# Altium footprint library LV_module.PcbLib: 18 footprints (part 1 of 2)
Each footprint in its own frame and in the unit in brackets; x right, y up, seen from the top. Pads: shape width x height; smd on the part's side, far side on the other; paste and mask are expansions set on the pad; w line width, h text height; cw(c..) or ccw(c..) is an arc to the next point about the centre after c.
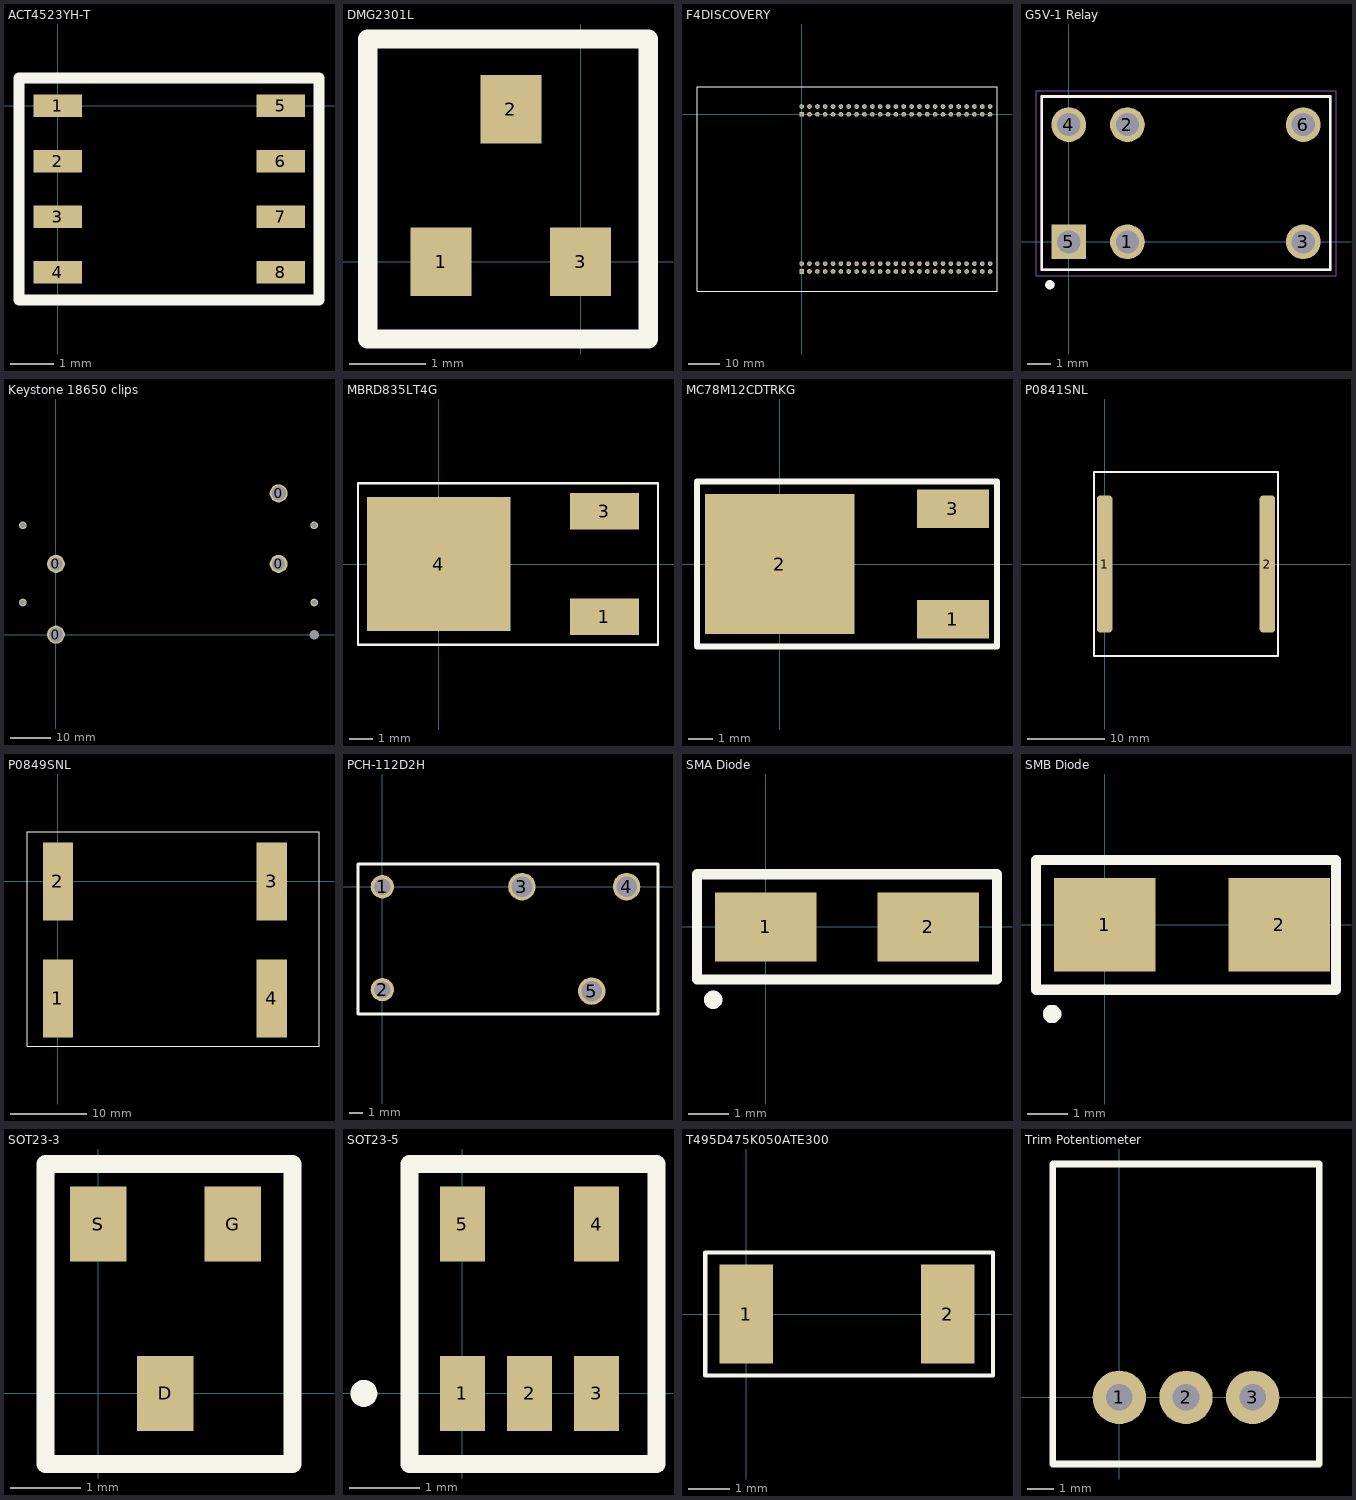
[diagram p0: the footprints below, top view; thin cyan lines are the x and y axes]

## ACT4523YH-T [mil] "12V Switching Step-Down Voltage Regulator, 3A"
pads (8):
  rect 43.5x20 smd: 1(0,0) 2(0,-50) 3(0,-100) 4(0,-150) 5(200.5,0) 6(200.5,-50) 7(200.5,-100) 8(200.5,-150)
Top Overlay:
  lines w10: -35,-175 235,-175 235,25 -35,25 -35,-175
3D body: height 10, standoff 0, extent -65,110 -65,110

## DMG2301L [mm] "P-Ch MOSFET 3A 20V"
pads (3):
  rect 0.8x0.9 smd: 1(-1.83,0) 2(-0.915,2) 3(0,0)
Top Overlay:
  lines w0.254: -2.794,-1.016 0.889,-1.016 0.889,2.921 -2.794,2.921 -2.794,-1.016

## F4DISCOVERY [mm]
pads (100):
  rect 1.5x1.5 hole 0.9: 1(0,-50.8) 51(0,0)
  round 1.5 hole 0.9: 2(0,-48.26) 3(2.54,-50.8) 4(2.54,-48.26) 5(5.08,-50.8) 6(5.08,-48.26) 7(7.62,-50.8) 8(7.62,-48.26) 9(10.16,-50.8) 10(10.16,-48.26) 11(12.7,-50.8) 12(12.7,-48.26) 13(15.24,-50.8) 14(15.24,-48.26) 15(17.78,-50.8) 16(17.78,-48.26) 17(20.32,-50.8) 18(20.32,-48.26) 19(22.86,-50.8) 20(22.86,-48.26) 21(25.4,-50.8) 22(25.4,-48.26) 23(27.94,-50.8) 24(27.94,-48.26) 25(30.48,-50.8) 26(30.48,-48.26) 27(33.02,-50.8) 28(33.02,-48.26) 29(35.56,-50.8) 30(35.56,-48.26) 31(38.1,-50.8) 32(38.1,-48.26) 33(40.64,-50.8) 34(40.64,-48.26) 35(43.18,-50.8) 36(43.18,-48.26) 37(45.72,-50.8) 38(45.72,-48.26) 39(48.26,-50.8) 40(48.26,-48.26) 41(50.8,-50.8) 42(50.8,-48.26) 43(53.34,-50.8) 44(53.34,-48.26) 45(55.88,-50.8) 46(55.88,-48.26) 47(58.42,-50.8) 48(58.42,-48.26) 49(60.96,-50.8) 50(60.96,-48.26) 52(0,2.54) 53(2.54,0) 54(2.54,2.54) 55(5.08,0) 56(5.08,2.54) 57(7.62,0) 58(7.62,2.54) 59(10.16,0) 60(10.16,2.54) 61(12.7,0) 62(12.7,2.54) 63(15.24,0) 64(15.24,2.54) 65(17.78,0) 66(17.78,2.54) 67(20.32,0) 68(20.32,2.54) 69(22.86,0) 70(22.86,2.54) 71(25.4,0) 72(25.4,2.54) 73(27.94,0) 74(27.94,2.54) 75(30.48,0) 76(30.48,2.54) 77(33.02,0) 78(33.02,2.54) 79(35.56,0) 80(35.56,2.54) 81(38.1,0) 82(38.1,2.54) 83(40.64,0) 84(40.64,2.54) 85(43.18,0) 86(43.18,2.54) 87(45.72,0) 88(45.72,2.54) 89(48.26,0) 90(48.26,2.54) 91(50.8,0) 92(50.8,2.54) 93(53.34,0) 94(53.34,2.54) 95(55.88,0) 96(55.88,2.54) 97(58.42,0) 98(58.42,2.54) 99(60.96,0) 100(60.96,2.54)
Top Overlay:
  lines w0.254: -33.82,-57.13 63.18,-57.13 63.18,8.87 -33.82,8.87 -33.82,-57.13

## G5V-1 Relay [mm]
pads (6):
  round 1.508 hole 1: 1(2.54,0) 2(2.54,5.08) 3(10.16,0) 4(0,5.08) 6(10.16,5.08)
  rect 1.508x1.508 hole 1: 5(0,0)
Top Overlay:
  circle w0.2: c-0.82,-1.86 r0.1
  lines w0.127: -1.17,-1.21 -1.17,6.29 11.33,6.29 11.33,-1.21 -1.17,-1.21
Mechanical 4:
  circle w0.2: c-0.82,-1.86 r0.1
  circle w0.2: c-0.82,-1.86 r0.1
  lines w0.127: -1.17,-1.21 11.33,-1.21 ; -1.17,-1.21 -1.17,6.29 ; -1.17,-1.21 11.33,-1.21 ; -1.17,-1.21 -1.17,6.29 ; -1.17,6.29 11.33,6.29 ; -1.17,6.29 11.33,6.29 ; 11.33,-1.21 11.33,6.29 ; 11.33,-1.21 11.33,6.29
Mechanical 16:
  lines w0.05: -1.42,-1.46 11.58,-1.46 11.58,6.54 -1.42,6.54 -1.42,-1.46

## Keystone 18650 clips [mm]
pads (9):
  round 4.445 hole 3.556: 0(0,0) 0(55.2,35)
  round 4.445 hole 3.175: 0(0,17.53) 0(55.2,17.53)
  round 1.905 hole 1.321: 1+(64.016,7.95) 1-(-8.204,7.95) 2+(-8.204,27.08) 2-(64.016,27.08)
  round 0 hole 2.388: 4(64.016,0)
3D body: height 14.86, standoff -4.6, extent -10.922,-2.438 66.294,37.44

## MBRD835LT4G [mm] "ON Semiconductor Shottky diode"
pads (3):
  rect 3x1.6 smd: 1(7.18,-2.285) 3(7.18,2.285)
  rect 6.2x5.8 smd: 4(0,0)
Top Overlay:
  lines w0.1: -3.5,-3.5 -3.5,3.5 9.5,3.5 9.5,-3.5 -3.5,-3.5

## MC78M12CDTRKG [mil] "12V Linear Voltage Regulator, 500mA"
pads (3):
  rect 118x63 smd: 1(283,-90) 3(283,90)
  rect 244x228 smd: 2(0,0)
Top Overlay:
  lines w10: -135,-135 -135,135 355,135 355,-135 -135,-135

## P0841SNL [mil] "Pulse electronics inductor 22uH 5A 36 mOHM SMD"
pads (2):
  rrect50% 80x700 smd: 1(0,0) 2(830,0)
Top Overlay:
  lines w10: -55,-470 885,-470 885,470 -55,470 -55,-470

## P0849SNL [mm] "Pulse electronics inductor 33UH 5A 19 MOHM SMD"
pads (4):
  rect 3.94x10.16 smd: 1(0,-15.24) 2(0,0) 3(27.86,0) 4(27.86,-15.24)
Top Overlay:
  lines w0.1: -4,-21.5 -4,6.5 34,6.5 34,-21.5 -4,-21.5

## PCH-112D2H [mm]
pads (5):
  round 1.7 hole 1.2: 1(0,0) 2(0,-7.493)
  round 2 hole 1.5: 3(10.16,0) 4(17.78,0) 5(15.24,-7.6)
Top Overlay:
  lines w0.254: -1.778,-9.271 -1.778,1.651 20.066,1.651 20.066,-9.271 -1.778,-9.271

## SMA Diode [mm]
pads (2):
  rect 2.5x1.7 smd: 1(0,0) 2(4,0)
Top Overlay:
  circle w0.254: c-1.3,-1.8 r0.1
  lines w0.254: -1.7,-1.3 5.7,-1.3 5.7,1.3 -1.7,1.3 -1.7,-1.3

## SMB Diode [mm]
pads (2):
  rect 2.5x2.3 smd: 1(0,0) 2(4.3,0)
Top Overlay:
  circle w0.254: c-1.3,-2.2 r0.1
  lines w0.254: -1.7,-1.6 5.7,-1.6 5.7,1.6 -1.7,1.6 -1.7,-1.6

## SOT23-3 [mm]
pads (3):
  rect 0.8x1.067 smd: D(0.95,0) G(1.9,2.4) S(0,2.4)
Top Overlay:
  lines w0.254: -0.75,-1 2.75,-1 2.75,3.25 -0.75,3.25 -0.75,-1
3D body: height 1.1, standoff 0, extent -0.762,0.7 2.75,1.7
3D body: height 0.25, standoff 0, extent -0.762,1.651 -0.762,1.651

## SOT23-5 [mm]
pads (5):
  rect 0.635x1.067 smd: 1(0,0) 2(0.95,0) 3(1.9,0) 4(1.9,2.4) 5(0,2.4)
Top Overlay:
  circle w0.254: c-1.397,0 r0.063
  lines w0.254: -0.75,-1 -0.75,3.25 2.75,3.25 2.75,-1 -0.75,-1
3D body: height 1.45, standoff 0, extent -0.762,0.7 2.75,1.7

## T495D475K050ATE300 [mm] "KEMET Capacitor (Case D)"
pads (2):
  rect 1.3x2.4 smd: 1(0,0) 2(4.9,0)
Top Overlay:
  lines w0.1: -1,-1.5 -1,1.5 6,1.5 6,-1.5 -1,-1.5

## Trim Potentiometer [mil]
pads (3):
  round 80 hole 40: 1(0,0) 2(100,0) 3(200,0)
Top Overlay:
  lines w10: -100,-100 300,-100 300,0 300,350 -100,350 -100,0 -100,-100